# Altium schematic symbol library MB784.SchLib: 34 symbols
Pins are listed as number, name and electrical type; pins without a type are passive.

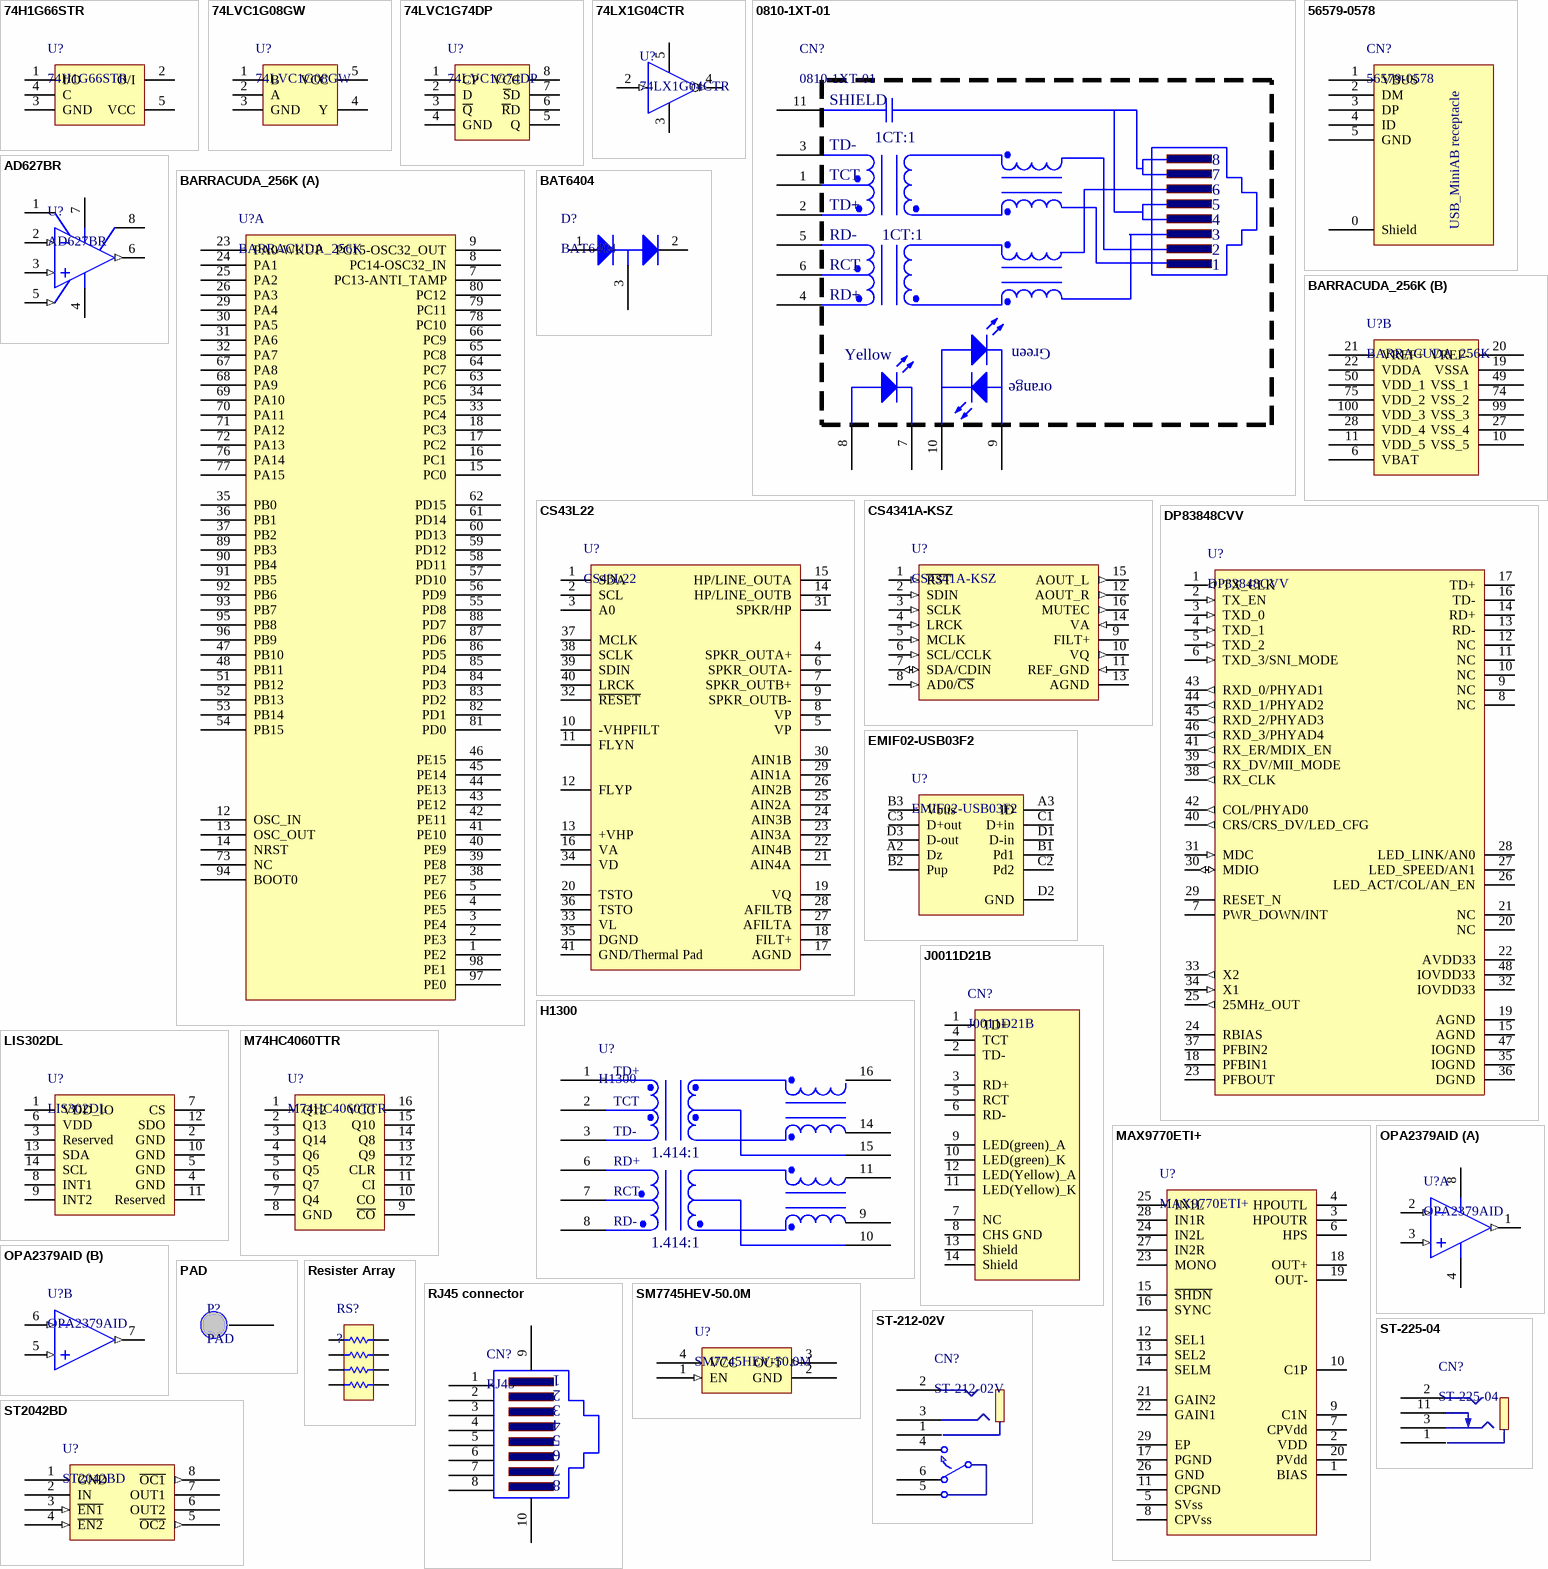
[diagram p0: symbols 74H1G66STR to ST-225-04]

## 74H1G66STR
designator U?
pins: 1 I/O, 2 O/I, 3 GND, 4 C, 5 VCC

## 74LVC1G08GW
designator U?
footprint TSSOP5 (Footprint not found)
pins: 1 B, 2 A, 3 GND, 4 Y, 5 VCC

## 74LVC1G74DP
designator U?
footprint TSSOP8 (Footprint not found)
pins: 1 CP, 2 D, 3 ~{Q}, 4 GND, 5 Q, 6 ~{R}D, 7 ~{S}D, 8 VCC

## 74LX1G04CTR
designator U?
pins: 1 NC hidden, 2 1A (in), 3 GND, 4 1Y (out), 5 VCC

## 0810-1XT-01
designator CN?
pins: 1 RS, 2 RS, 3 RS, 4 RS, 5 RS, 6 RS, 7, 8, 9, 10, 11 SHIELD
text: 1CT:1; TD-; TCT; TD+; RD-; RCT; RD+; Green; Yellow; orange

## 56579-0578
designator CN?
pins: 0 Shield, 1 VBUS, 2 DM, 3 DP, 4 ID, 5 GND
text: USB_MiniAB receptacle

## AD627BR
designator U?
footprint SO-8 (Footprint not found)
pins: 1 Rg, 2 IN- (in), 3 IN+ (in), 4 V- (power), 5 REF (in), 6 OUT (out), 7 V+ (power), 8 Rg

## BARRACUDA_256K
designator U?
footprint TQFP100 (Footprint not found)
part A pins: 1 PE2, 2 PE3, 3 PE4, 4 PE5, 5 PE6, 7 PC13-ANTI_TAMP, 8 PC14-OSC32_IN, 9 PC15-OSC32_OUT, 12 OSC_IN, 13 OSC_OUT, 14 NRST, 15 PC0, 16 PC1, 17 PC2, 18 PC3, 23 PA0-WKUP, 24 PA1, 25 PA2, 26 PA3, 29 PA4, 30 PA5, 31 PA6, 32 PA7, 33 PC4, 34 PC5, 35 PB0, 36 PB1, 37 PB2, 38 PE7, 39 PE8, 40 PE9, 41 PE10, 42 PE11, 43 PE12, 44 PE13, 45 PE14, 46 PE15, 47 PB10, 48 PB11, 51 PB12, 52 PB13, 53 PB14, 54 PB15, 55 PD8, 56 PD9, 57 PD10, 58 PD11, 59 PD12, 60 PD13, 61 PD14, 62 PD15, 63 PC6, 64 PC7, 65 PC8, 66 PC9, 67 PA8, 68 PA9, 69 PA10, 70 PA11, 71 PA12, 72 PA13, 73 NC, 76 PA14, 77 PA15, 78 PC10, 79 PC11, 80 PC12, 81 PD0, 82 PD1, 83 PD2, 84 PD3, 85 PD4, 86 PD5, 87 PD6, 88 PD7, 89 PB3, 90 PB4, 91 PB5, 92 PB6, 93 PB7, 94 BOOT0, 95 PB8, 96 PB9, 97 PE0, 98 PE1
part B pins: 6 VBAT, 10 VSS_5, 11 VDD_5, 19 VSSA, 20 VREF-, 21 VREF+, 22 VDDA, 27 VSS_4, 28 VDD_4, 49 VSS_1, 50 VDD_1, 74 VSS_2, 75 VDD_2, 99 VSS_3, 100 VDD_3

## BAT6404
designator D?
footprint SOT-23 (Footprint not found)
pins: 1 A, 2 K, 3

## CS43L22
designator U?
footprint QFN40 (Footprint not found)
pins: 1 SDA, 2 SCL, 3 A0, 4 SPKR_OUTA+, 5 VP, 6 SPKR_OUTA-, 7 SPKR_OUTB+, 8 VP, 9 SPKR_OUTB-, 10 -VHPFILT, 11 FLYN, 12 FLYP, 13 +VHP, 14 HP/LINE_OUTB, 15 HP/LINE_OUTA, 16 VA, 17 AGND, 18 FILT+, 19 VQ, 20 TSTO, 21 AIN4A, 22 AIN4B, 23 AIN3A, 24 AIN3B, 25 AIN2A, 26 AIN2B, 27 AFILTA, 28 AFILTB, 29 AIN1A, 30 AIN1B, 31 SPKR/HP, 32 ~{RESET}, 33 VL, 34 VD, 35 DGND, 36 TSTO, 37 MCLK, 38 SCLK, 39 SDIN, 40 LRCK, 41 GND/Thermal Pad

## CS4341A-KSZ
designator U?
footprint SO16 (Footprint not found)
pins: 1 ~{RST} (in), 2 SDIN (in), 3 SCLK (in), 4 LRCK (in), 5 MCLK (in), 6 SCL/CCLK (in), 7 SDA/CDIN (io), 8 AD0/~{CS} (in), 9 FILT+, 10 VQ (out), 11 REF_GND (in), 12 AOUT_R (out), 13 AGND, 14 VA (in), 15 AOUT_L (out), 16 MUTEC (out)

## DP83848CVV
designator U?
footprint LQFP48 (Footprint not found)
pins: 1 TX_CLK (out), 2 TX_EN (in), 3 TXD_0 (in), 4 TXD_1 (in), 5 TXD_2 (in), 6 TXD_3/SNI_MODE (in), 7 PWR_DOWN/INT, 8 NC, 9 NC, 10 NC, 11 NC, 12 NC, 13 RD-, 14 RD+, 15 AGND, 16 TD-, 17 TD+, 18 PFBIN1, 19 AGND, 20 NC, 21 NC, 22 AVDD33, 23 PFBOUT, 24 RBIAS, 25 25MHz_OUT (out), 26 LED_ACT/COL/AN_EN, 27 LED_SPEED/AN1, 28 LED_LINK/AN0, 29 RESET_N, 30 MDIO (io), 31 MDC (in), 32 IOVDD33, 33 X2 (out), 34 X1 (in), 35 IOGND, 36 DGND, 37 PFBIN2, 38 RX_CLK (out), 39 RX_DV/MII_MODE (out), 40 CRS/CRS_DV/LED_CFG (out), 41 RX_ER/MDIX_EN (out), 42 COL/PHYAD0 (out), 43 RXD_0/PHYAD1 (out), 44 RXD_1/PHYAD2 (out), 45 RXD_2/PHYAD3 (out), 46 RXD_3/PHYAD4 (out), 47 IOGND, 48 IOVDD33

## EMIF02-USB03F2
designator U?
footprint Flip Chip (Footprint not found)
pins: A2 Dz, A3 ID, B1 Pd1, B2 Pup, B3 Vbus, C1 D+in, C2 Pd2, C3 D+out, D1 D-in, D2 GND, D3 D-out

## H1300
designator U?
pins: 1 TD+, 2 TCT, 3 TD-, 6 RD+, 7 RCT, 8 RD-, 9 RX-, 10, 11 RX+, 14 TX-, 15, 16 TX+
text: 1.414:1

## J0011D21B
designator CN?
pins: 1 TD+, 2 TD-, 3 RD+, 4 TCT, 5 RCT, 6 RD-, 7 NC, 8 CHS GND, 9 LED(green)_A, 10 LED(green)_K, 11 LED(Yellow)_K, 12 LED(Yellow)_A, 13 Shield, 14 Shield

## LIS302DL
designator U?
pins: 1 VDD_IO, 2 GND, 3 Reserved, 4 GND, 5 GND, 6 VDD, 7 CS, 8 INT1, 9 INT2, 10 GND, 11 Reserved, 12 SDO, 13 SDA, 14 SCL

## M74HC4060TTR
designator U?
footprint TSSOP (Footprint not found)
footprint TSSOP16 (Footprint not found)
pins: 1 Q12, 2 Q13, 3 Q14, 4 Q6, 5 Q5, 6 Q7, 7 Q4, 8 GND, 9 ~{CO}, 10 CO, 11 CI, 12 CLR, 13 Q9, 14 Q8, 15 Q10, 16 VCC

## MAX9770ETI+
designator U?
footprint 28 TQFN (Footprint not found)
pins: 1 BIAS, 2 VDD, 3 HPOUTR, 4 HPOUTL, 5 SVss, 6 HPS, 7 CPVdd, 8 CPVss, 9 C1N, 10 C1P, 11 CPGND, 12 SEL1, 13 SEL2, 14 SELM, 15 ~{SHDN}, 16 SYNC, 17 PGND, 18 OUT+, 19 OUT-, 20 PVdd, 21 GAIN2, 22 GAIN1, 23 MONO, 24 IN2L, 25 IN1L, 26 GND, 27 IN2R, 28 IN1R, 29 EP

## OPA2379AID
designator U?
footprint SO-8 (Footprint not found)
part A pins: 1 OUTA (out), 2 IN-A (in), 3 IN+A (in), 4 V- (power), 8 V+ (power)
part B pins: 5 IN+B (in), 6 IN-B (in), 7 OUTB (out)

## PAD
designator P?
pins: 1

## Resister Array
designator RS?, comment ?
pins: 1, 2, 3, 4, 5, 6, 7, 8

## RJ45 connector
designator CN?, comment RJ45
pins: 1, 2, 3, 4, 5, 6, 7, 8, 9, 10

## SM7745HEV-50.0M
designator U?
pins: 1 EN (in), 2 GND, 3 OUT (out), 4 VCC

## ST2042BD
designator U?
footprint SO-8 (Footprint not found)
pins: 1 GND, 2 IN, 3 ~{EN1} (in), 4 ~{EN2} (in), 5 ~{OC2} (out), 6 OUT2, 7 OUT1, 8 ~{OC1} (out)

## ST-212-02V
designator CN?
pins: 1, 2, 3, 4, 5, 6

## ST-225-04
designator CN?
pins: 1, 2, 3, 11

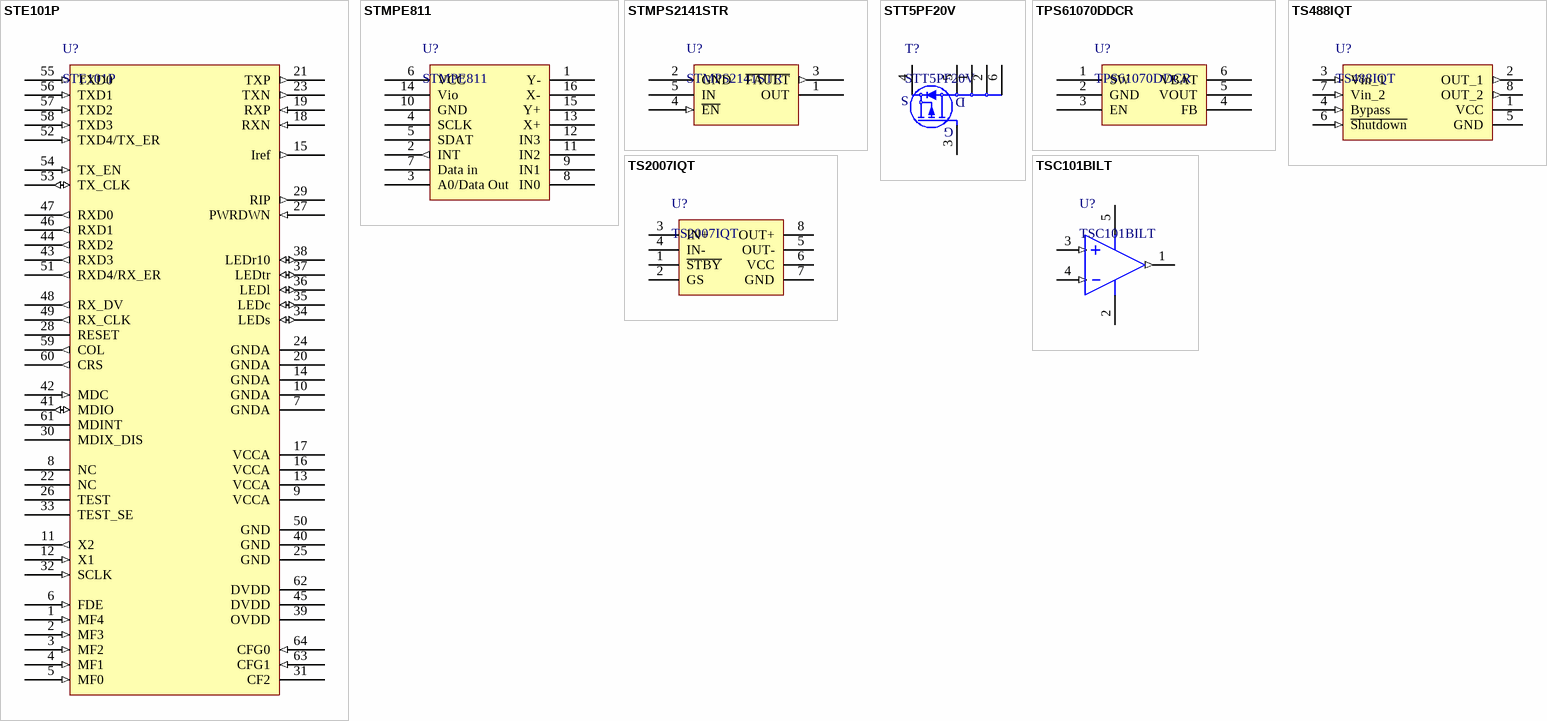
[diagram p1: symbols STE101P to TSC101BILT]

## STE101P
designator U?
footprint TQFP64 (Footprint not found)
pins: 1 MF4 (in), 2 MF3 (in), 3 MF2 (in), 4 MF1 (in), 5 MF0 (in), 6 FDE (in), 7 GNDA (power), 8 NC (hiz), 9 VCCA (power), 10 GNDA (power), 11 X2 (out), 12 X1 (in), 13 VCCA (power), 14 GNDA (power), 15 Iref (out), 16 VCCA (power), 17 VCCA (power), 18 RXN (in), 19 RXP (in), 20 GNDA (power), 21 TXP (out), 22 NC (power), 23 TXN (out), 24 GNDA (power), 25 GND, 26 TEST, 27 PWRDWN (in), 28 RESET, 29 RIP (out), 30 MDIX_DIS (hiz), 31 CF2 (hiz), 32 SCLK (in), 33 TEST_SE, 34 LEDs (io), 35 LEDc (io), 36 LEDl (io), 37 LEDtr (io), 38 LEDr10 (io), 39 OVDD, 40 GND, 41 MDIO (io), 42 MDC (in), 43 RXD3 (out), 44 RXD2 (out), 45 DVDD, 46 RXD1 (out), 47 RXD0 (out), 48 RX_DV (out), 49 RX_CLK (out), 50 GND, 51 RXD4/RX_ER (out), 52 TXD4/TX_ER (in), 53 TX_CLK (io), 54 TX_EN (in), 55 TXD0 (in), 56 TXD1 (in), 57 TXD2 (in), 58 TXD3 (in), 59 COL (out), 60 CRS (out), 61 MDINT (oc), 62 DVDD, 63 CFG1 (in), 64 CFG0 (in)

## STMPE811
designator U?
footprint QFN16 (Footprint not found)
pins: 1 Y-, 2 INT (out), 3 A0/Data Out, 4 SCLK, 5 SDAT, 6 VCC, 7 Data in, 8 IN0, 9 IN1, 10 GND, 11 IN2, 12 IN3, 13 X+, 14 Vio, 15 Y+, 16 X-

## STMPS2141STR
designator U?
footprint SOT23-5L (Footprint not found)
pins: 1 OUT, 2 GND, 3 ~{FAULT} (out), 4 ~{EN} (in), 5 IN

## STT5PF20V
designator T?
pins: 1 D, 2 D, 3 G, 4 S, 5 D, 6 D

## TPS61070DDCR
designator U?
footprint SOT23 (Footprint not found)
pins: 1 SW, 2 GND, 3 EN, 4 FB, 5 VOUT, 6 VBAT

## TS488IQT
designator U?
footprint DFN8 (Footprint not found)
pins: 1 VCC, 2 OUT_1 (out), 3 Vin_1 (in), 4 Bypass (in), 5 GND, 6 ~{Shutdown} (in), 7 Vin_2 (in), 8 OUT_2 (out)

## TS2007IQT
designator U?
footprint DFN8 (Footprint not found)
pins: 1 ~{STBY}, 2 GS, 3 IN+, 4 IN-, 5 OUT-, 6 VCC, 7 GND, 8 OUT+

## TSC101BILT
designator U?
pins: 1 OUT (out), 2 GND (power), 3 Vp (in), 4 Vm (in), 5 Vcc (power)